# Altium integrated library stm32f4x1cxu6-core.IntLib: 1 symbol
Pins are listed as number, name and electrical type; pins without a type are passive.

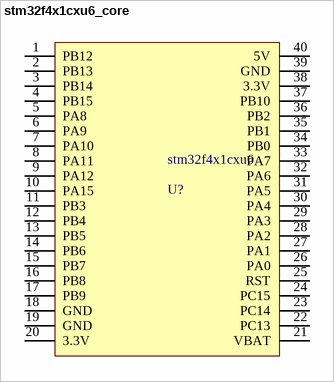
[diagram p0: symbol stm32f4x1cxu6_core]

## stm32f4x1cxu6_core
designator stm32f4x1cxu6, comment U?
footprint stm32f4x1cxu6_core
pins: 1 PB12, 2 PB13, 3 PB14, 4 PB15, 5 PA8, 6 PA9, 7 PA10, 8 PA11, 9 PA12, 10 PA15, 11 PB3, 12 PB4, 13 PB5, 14 PB6, 15 PB7, 16 PB8, 17 PB9, 18 GND, 19 GND, 20 3.3V, 21 VBAT, 22 PC13, 23 PC14, 24 PC15, 25 RST, 26 PA0, 27 PA1, 28 PA2, 29 PA3, 30 PA4, 31 PA5, 32 PA6, 33 PA7, 34 PB0, 35 PB1, 36 PB2, 37 PB10, 38 3.3V, 39 GND, 40 5V